# EAGLE library part LOLIN_D1_MINI_PRO_V2 (library LOLIN_D1_MINI_PRO_V2)
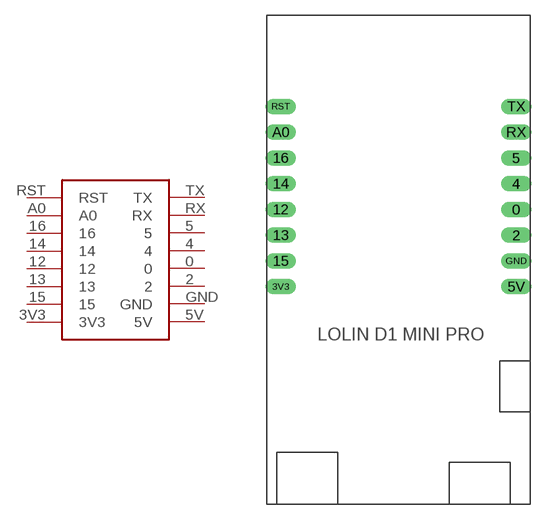
[diagram p0: symbol with the pads of LOLIN_D1_MINI_PRO_V2; footprint LOLIN_D1_MINI_PRO_V2]

Designator prefix -

## LOLIN_D1_MINI_PRO_V2  [LOLIN_D1_MINI_PRO_V2]
0  0
2  2
3V3  3V3
4  4
5  5
5V  5V
12  12
13  13
14  14
15  15
16  16
A0  A0
GND  GND
RST  RST
RX  RX
TX  TX

## Footprint LOLIN_D1_MINI_PRO_V2 (pad centres in mm)
drill 1 long: 0 11.597,4.96; 2 11.597,2.42; 3V3 -11.597,-2.66; 4 11.597,7.5; 5 11.597,10.04; 5V 11.597,-2.66; 12 -11.597,4.96; 13 -11.597,2.42; 14 -11.597,7.5; 15 -11.597,-0.12; 16 -11.597,10.04; A0 -11.597,12.58; GND 11.597,-0.12; RST -11.597,15.12; RX 11.597,12.58; TX 11.597,15.12